# Altium schematic symbol library LTC3803.SchLib: 1 symbol
Pins are listed as number, name and electrical type; pins without a type are passive.

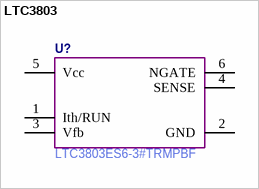
[diagram p0: symbol LTC3803]

## LTC3803
designator U?  Manufacturer Part Number: LTC3803ES6-3#TRMPBF  (hidden comment: *)
pins: 1 Ith/RUN, 2 GND, 3 Vfb, 4 SENSE, 5 Vcc, 6 NGATE